# Altium footprint library Inductors.PcbLib: 15 footprints
Each footprint in its own frame and in the unit in brackets; x right, y up, seen from the top. Pads: shape width x height; smd on the part's side, far side on the other; paste and mask are expansions set on the pad; w line width, h text height; cw(c..) or ccw(c..) is an arc to the next point about the centre after c.
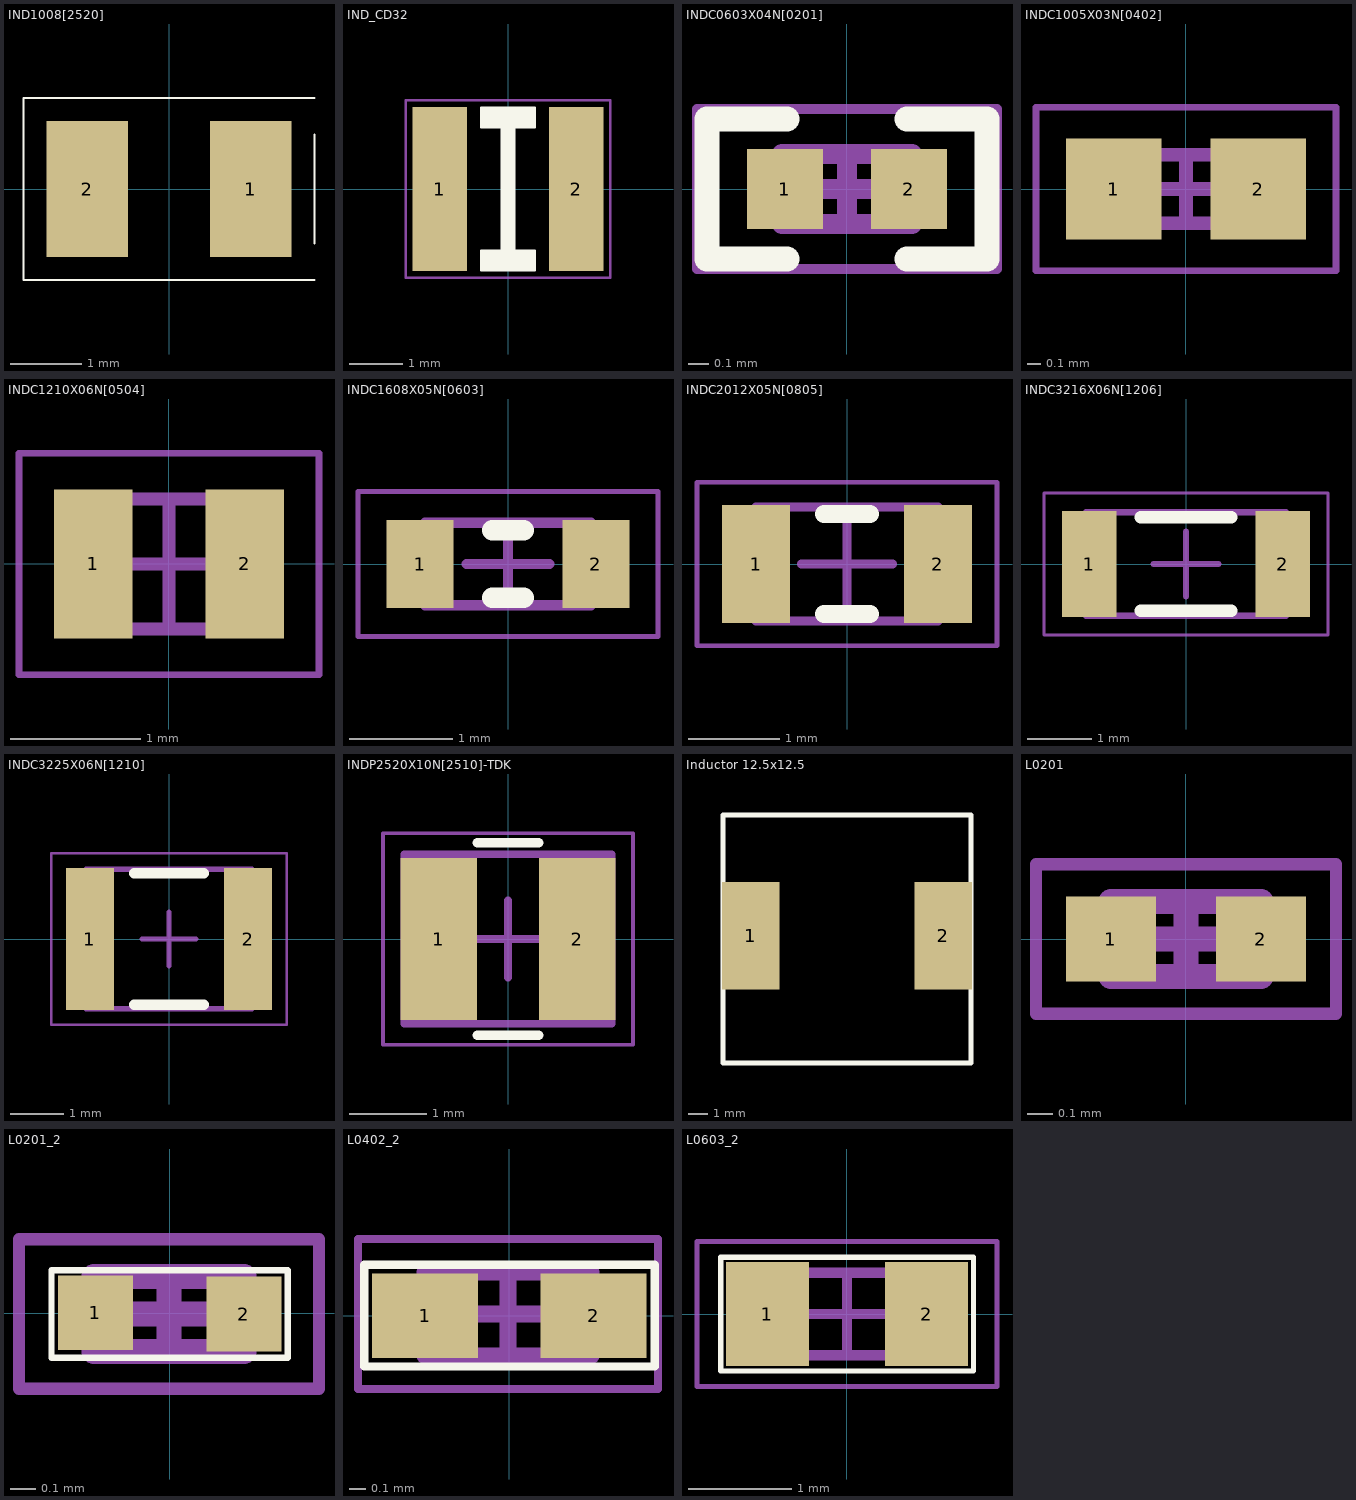
[diagram p0: the footprints below, top view; thin cyan lines are the x and y axes]

## IND1008[2520] [mil] "2520"
pads (2):
  rect 45x75 smd mask+2: 1(45,0) 2(-45,0)
Top Overlay:
  lines w1: 80,-50 -80,-50 -80,50 80,50 ; 80,-30 80,30
3D body "User Library-INDM2520X190N.step": height 70.87, standoff 0, extent -49.2,-40.36 49.22,38.38

## IND_CD32 [mil]
pads (2):
  rect 40x120 smd: 1(-50,0) 2(50,0)
Top Overlay:
  region: -20,60 20,60 20,45 5,45 5,-45 20,-45 20,-60 -20,-60 -20,-45 -5,-45 -5,45 -20,45
  lines w1: -20,-60 20,-60 20,-45 5,-45 5,45 20,45 20,60 -20,60 -20,45 -5,45 -5,-45 -20,-45 -20,-60
Mechanical 14:
  lines w2: -75,-65 -75,65 75,65 75,-65 -75,-65
3D body "User Library-CD32-3_5x2_1.STEP": height 82.68, standoff 0, extent -67.88,-59.05 67.88,59.06

## INDC0603X04N[0201] [mm] "Chip Inductor, 2-Leads, Body 0,6x0,30mm, IPC Medium Density"
height 0.3
pads (2):
  rect 0.38x0.4 smd mask+0.05: 1(-0.31,0) 2(0.31,0)
Top Overlay:
  lines w0.127: -0.3,-0.35 -0.7,-0.35 -0.7,0.35 -0.3,0.35 ; 0.3,-0.35 0.7,-0.35 0.7,0.35 0.3,0.35
Mechanical 13:
  lines w0.1: -0.325,-0.175 -0.325,0.175 0.325,0.175 0.325,-0.175 -0.325,-0.175
Mechanical 15:
  lines w0.05: -0.75,-0.4 -0.75,0.4 0.75,0.4 0.75,-0.4 -0.75,-0.4
  lines w0.1: -0.175,0 0.175,0 ; 0,-0.175 0,0.175
3D body "LQP03TN2N3B02D.step": height 0.33, standoff 0, extent -0.3,-0.15 0.3,0.15

## INDC1005X03N[0402] [mm] "Chip Inductor, 2-Leads, Body 1,00x0,50mm, IPC Medium Density"
height 0.3
pads (2):
  rect 0.7x0.74 smd: 1(-0.53,0) 2(0.53,0)
Mechanical 13:
  lines w0.1: -0.5,-0.25 0.5,-0.25 0.5,0.25 -0.5,0.25 -0.5,-0.25
Mechanical 15:
  lines w0.05: -1.1,-0.6 1.1,-0.6 1.1,0.6 -1.1,0.6 -1.1,-0.6
  lines w0.1: -0.25,0 0.25,0 ; 0,-0.25 0,0.25
3D body: height 0.3, standoff 0, extent 0.3,-0.25 0.5,0.25
3D body: height 0.3, standoff 0, extent -0.5,-0.25 -0.3,0.25
3D body: height 0.3, standoff 0, extent -0.3,-0.25 0.3,0.25

## INDC1210X06N[0504] [mm] "Chip Inductor, 2-Leads, Body 1,20x1,00mm, IPC Medium Density"
height 0.55
pads (2):
  rect 0.6x1.14 smd: 1(-0.58,0) 2(0.58,0)
Mechanical 13:
  lines w0.1: -0.6,-0.5 -0.6,0.5 0.6,0.5 0.6,-0.5 -0.6,-0.5
Mechanical 15:
  lines w0.05: -1.15,-0.85 -1.15,0.85 1.15,0.85 1.15,-0.85 -1.15,-0.85
  lines w0.1: -0.5,0 0.5,0 ; 0,-0.5 0,0.5
3D body: height 0.55, standoff 0, extent -0.35,-0.5 0.35,0.5
3D body: height 0.55, standoff 0, extent -0.6,-0.5 -0.35,0.5
3D body: height 0.55, standoff 0, extent 0.35,-0.5 0.6,0.5

## INDC1608X05N[0603] [mm] "Chip Inductor, 2-Leads, Body 1,60x0,80mm, IPC Medium Density"
height 0.45
pads (2):
  rect 0.65x0.85 smd: 1(-0.85,0) 2(0.85,0)
Top Overlay:
  lines w0.2: -0.15,-0.325 0.15,-0.325 ; -0.15,0.325 0.15,0.325
Mechanical 13:
  lines w0.1: -0.8,-0.4 -0.8,0.4 0.8,0.4 0.8,-0.4 -0.8,-0.4
Mechanical 15:
  lines w0.05: -1.45,-0.7 -1.45,0.7 1.45,0.7 1.45,-0.7 -1.45,-0.7
  lines w0.1: -0.4,0 0.4,0 ; 0,-0.4 0,0.4
3D body: height 0.45, standoff 0, extent -0.55,-0.4 0.55,0.4
3D body: height 0.45, standoff 0, extent -0.8,-0.4 -0.55,0.4
3D body: height 0.45, standoff 0, extent 0.55,-0.4 0.8,0.4

## INDC2012X05N[0805] [mm] "Chip Inductor, 2-Leads, Body 2,00x1,25mm, IPC Medium Density"
height 0.5
pads (2):
  rect 0.75x1.3 smd: 1(-1,0) 2(1,0)
Top Overlay:
  lines w0.2: -0.25,-0.55 0.25,-0.55 ; -0.25,0.55 0.25,0.55
Mechanical 13:
  lines w0.1: -1,-0.625 1,-0.625 1,0.625 -1,0.625 -1,-0.625
Mechanical 15:
  lines w0.05: -1.65,-0.9 1.65,-0.9 1.65,0.9 -1.65,0.9 -1.65,-0.9
  lines w0.1: -0.5,0 0.5,0 ; 0,-0.5 0,0.5
3D body: height 0.5, standoff 0, extent 0.65,-0.625 1,0.625
3D body: height 0.5, standoff 0, extent -1,-0.625 -0.65,0.625
3D body: height 0.5, standoff 0, extent -0.65,-0.625 0.65,0.625

## INDC3216X06N[1206] [mm] "Chip Inductor, 2-Leads, Body 3,10x1,60mm, IPC Medium Density"
height 0.55
pads (2):
  rect 0.85x1.65 smd: 1(-1.5,0) 2(1.5,0)
Top Overlay:
  lines w0.2: -0.7,-0.725 0.7,-0.725 ; -0.7,0.725 0.7,0.725
Mechanical 13:
  lines w0.1: -1.55,-0.8 1.55,-0.8 1.55,0.8 -1.55,0.8 -1.55,-0.8
Mechanical 15:
  lines w0.05: -2.2,-1.1 2.2,-1.1 2.2,1.1 -2.2,1.1 -2.2,-1.1
  lines w0.1: -0.5,0 0.5,0 ; 0,-0.5 0,0.5
3D body: height 0.55, standoff 0, extent 1.1,-0.8 1.55,0.8
3D body: height 0.55, standoff 0, extent -1.55,-0.8 -1.1,0.8
3D body: height 0.55, standoff 0, extent -1.1,-0.8 1.1,0.8

## INDC3225X06N[1210] [mm] "Chip Inductor, 2-Leads, Body 3,10x2,60mm, IPC Medium Density"
height 0.55
pads (2):
  rect 0.9x2.65 smd: 1(-1.475,0) 2(1.475,0)
Top Overlay:
  lines w0.2: -0.65,-1.225 0.65,-1.225 ; -0.65,1.225 0.65,1.225
Mechanical 13:
  lines w0.1: -1.55,-1.3 1.55,-1.3 1.55,1.3 -1.55,1.3 -1.55,-1.3
Mechanical 15:
  lines w0.05: -2.2,-1.6 2.2,-1.6 2.2,1.6 -2.2,1.6 -2.2,-1.6
  lines w0.1: -0.5,0 0.5,0 ; 0,-0.5 0,0.5
3D body: height 0.55, standoff 0, extent 1.05,-1.3 1.55,1.3
3D body: height 0.55, standoff 0, extent -1.55,-1.3 -1.05,1.3
3D body: height 0.55, standoff 0, extent -1.05,-1.3 1.05,1.3

## INDP2520X10N[2510]-TDK [mm] "Precision Wire Wound Inductor, 2-Leads, Body 2,50x2,00mm, IPC Medium Density"
height 1
pads (2):
  rect 1x2.1 smd: 1(-0.9,0) 2(0.9,0)
Top Overlay:
  lines w0.127: -0.4,-1.25 0.4,-1.25 ; -0.4,1.25 0.4,1.25
Mechanical 13:
  lines w0.1: -1.35,-1.1 1.35,-1.1 1.35,1.1 -1.35,1.1 -1.35,-1.1
Mechanical 15:
  lines w0.05: -1.625,-1.375 1.625,-1.375 1.625,1.375 -1.625,1.375 -1.625,-1.375
  lines w0.1: -0.5,0 0.5,0 ; 0,-0.5 0,0.5
3D body "VLS252010CX-2R2M-1.STEP": height 1, standoff 0, extent -1.25,-1 1.25,1

## Inductor 12.5x12.5 [mm]
pads (2):
  rect 2.9x5.4 smd: 1(-20.3,11.049) 2(-10.6,11.049)
Top Overlay:
  lines w0.254: -21.698,4.642 -9.198,4.642 -9.198,17.142 -21.698,17.142 -21.698,4.642

## L0201 [mm]
pads (2):
  rect 0.36x0.34 smd: 1(-0.3,0) 2(0.3,0)
Mechanical 13:
  lines w0.1: -0.3,-0.15 -0.3,0.15 0.3,0.15 0.3,-0.15 -0.3,-0.15
Mechanical 15:
  lines w0.05: -0.6,-0.3 -0.6,0.3 0.6,0.3 0.6,-0.3 -0.6,-0.3
  lines w0.1: -0.15,0 0.15,0 ; 0,-0.15 0,0.15
3D body "User Library-V0201HD.STEP": height 0.3, standoff 0, extent -0.3,-0.15 0.3,0.15

## L0201_2 [mm]
pads (2):
  rect 0.3x0.3 smd: 1(-0.297,0.003) 2(0.297,-0.003)
Top Overlay:
  lines w0.025: -0.472,-0.178 0.472,-0.178 0.472,0.173 -0.472,0.173 -0.472,-0.178
Mechanical 13:
  lines w0.1: -0.303,-0.153 0.297,-0.153 0.297,0.147 -0.303,0.147 -0.303,-0.153
Mechanical 15:
  lines w0.05: -0.603,-0.303 0.597,-0.303 0.597,0.297 -0.603,0.297 -0.603,-0.303
  lines w0.1: -0.153,-0.003 0.147,-0.003 ; -0.003,-0.153 -0.003,0.147
3D body "User Library-V0201HD.STEP": height 0.3, standoff 0, extent -0.3,-0.15 0.3,0.15

## L0402_2 [mil]
pads (2):
  rect 25x20 smd: 1(-19.9,0) 2(19.9,0)
Top Overlay:
  lines w2: -34.3,-12 -34.3,12 34.4,12 34.4,-12 -34.3,-12
Mechanical 13:
  lines w3.94: -19.98,-9.44 -19.98,10.24 19.39,10.24 19.39,-9.44 -19.98,-9.44
Mechanical 15:
  lines w1.97: -35.73,-17.32 -35.73,18.12 35.13,18.12 35.13,-17.32 -35.73,-17.32
  lines w3.94: -10.14,0.4 9.54,0.4 ; -0.3,-9.44 -0.3,10.24
3D body: height 11.81, standoff 0, extent -11.81,-9.84 11.81,9.85
3D body: height 11.81, standoff 0, extent -19.68,-9.84 -11.81,9.85
3D body: height 11.81, standoff 0, extent 11.81,-9.84 19.69,9.85

## L0603_2 [mil]
pads (2):
  rect 31.5x39.4 smd: 1(-30.3,0) 2(30.3,0)
Top Overlay:
  lines w2: -48,-21.7 48.1,-21.7 48.1,21.6 -48,21.6 -48,-21.7
Mechanical 13:
  lines w3.94: -31.49,-15.75 -31.49,15.75 31.5,15.75 31.5,-15.75 -31.49,-15.75
Mechanical 15:
  lines w1.97: -57.09,-27.56 -57.09,27.56 57.09,27.56 57.09,-27.56 -57.09,-27.56
  lines w3.94: -15.75,0 15.75,0 ; 0,-15.75 0,15.75
3D body: height 17.72, standoff 0, extent -21.65,-15.74 21.66,15.75
3D body: height 17.72, standoff 0, extent -31.49,-15.74 -21.65,15.75
3D body: height 17.72, standoff 0, extent 21.66,-15.74 31.5,15.75